# Altium schematic symbol library RPi Bowler Symbol Lib.SchLib: 12 symbols
Pins are listed as number, name and electrical type; pins without a type are passive.

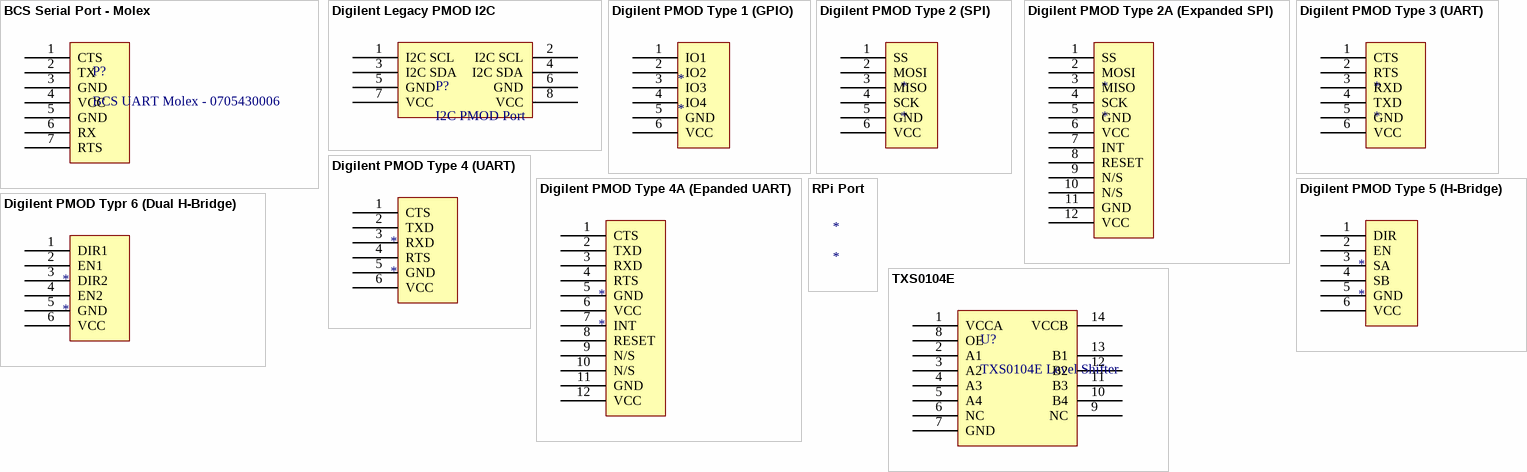
[diagram p0: symbols BCS Serial Port - Molex to TXS0104E]

## BCS Serial Port - Molex
designator P?, comment BCS UART Molex - 0705430006
BCS UART Port Molex
footprint BCS Serial Port - Molex (Molex - 0705530041)
pins: 1 CTS, 2 TX, 3 GND, 4 VCC, 5 GND, 6 RX, 7 RTS

## Digilent Legacy PMOD I2C
designator P?, comment I2C PMOD Port
pins: 1 I2C SCL, 2 I2C SCL, 3 I2C SDA, 4 I2C SDA, 5 GND, 6 GND, 7 VCC, 8 VCC

## Digilent PMOD Type 1 (GPIO)
designator *
footprint 1X6 2.54mm PMOD - Peripheral & HOST
pins: 1 IO1, 2 IO2, 3 IO3, 4 IO4, 5 GND, 6 VCC

## Digilent PMOD Type 2 (SPI)
designator *
footprint 1X6 2.54mm PMOD - Peripheral & HOST
pins: 1 SS, 2 MOSI, 3 MISO, 4 SCK, 5 GND, 6 VCC

## Digilent PMOD Type 2A (Expanded SPI)
designator *
footprint 2X6 2.54mm PMOD - HOST
footprint 2X6 2.54mm PMOD - Peripheral
pins: 1 SS, 2 MOSI, 3 MISO, 4 SCK, 5 GND, 6 VCC, 7 INT, 8 RESET, 9 N/S, 10 N/S, 11 GND, 12 VCC

## Digilent PMOD Type 3 (UART)
designator *
footprint 1X6 2.54mm PMOD - Peripheral & HOST
pins: 1 CTS, 2 RTS, 3 RXD, 4 TXD, 5 GND, 6 VCC

## Digilent PMOD Type 4 (UART)
designator *
footprint 1X6 2.54mm PMOD - Peripheral & HOST
pins: 1 CTS, 2 TXD, 3 RXD, 4 RTS, 5 GND, 6 VCC

## Digilent PMOD Type 4A (Epanded UART)
designator *
footprint 2X6 2.54mm PMOD - HOST
footprint 2X6 2.54mm PMOD - Peripheral
pins: 1 CTS, 2 TXD, 3 RXD, 4 RTS, 5 GND, 6 VCC, 7 INT, 8 RESET, 9 N/S, 10 N/S, 11 GND, 12 VCC

## Digilent PMOD Type 5 (H-Bridge)
designator *
footprint 1X6 2.54mm PMOD - Peripheral & HOST
pins: 1 DIR, 2 EN, 3 SA, 4 SB, 5 GND, 6 VCC

## Digilent PMOD Typr 6 (Dual H-Bridge)
designator *
footprint 1X6 2.54mm PMOD - Peripheral & HOST
pins: 1 DIR1, 2 EN1, 3 DIR2, 4 EN2, 5 GND, 6 VCC

## RPi Port
designator *

## TXS0104E
designator U?, comment TXS0104E Level Shifter
TXS0104E - Bidriectional Opendrain/pushpull level shift
footprint RGY  (S-PVQFN-N14) (QFN, 16-Leads, Body 3.50x3.50mm, Pitch 0.50mm, Thermal Pad 2.00x2.00mm, IPC Medium Density)
pins: 1 VCCA, 2 A1, 3 A2, 4 A3, 5 A4, 6 NC, 7 GND, 8 OE, 9 NC, 10 B4, 11 B3, 12 B2, 13 B1, 14 VCCB